# Altium footprint library Synthiam-roundtrip2.PcbLib: 481 footprints (part 18 of 31)
Each footprint in its own frame and in the unit in brackets; x right, y up, seen from the top. Pads: shape width x height; smd on the part's side, far side on the other; paste and mask are expansions set on the pad; w line width, h text height; cw(c..) or ccw(c..) is an arc to the next point about the centre after c.
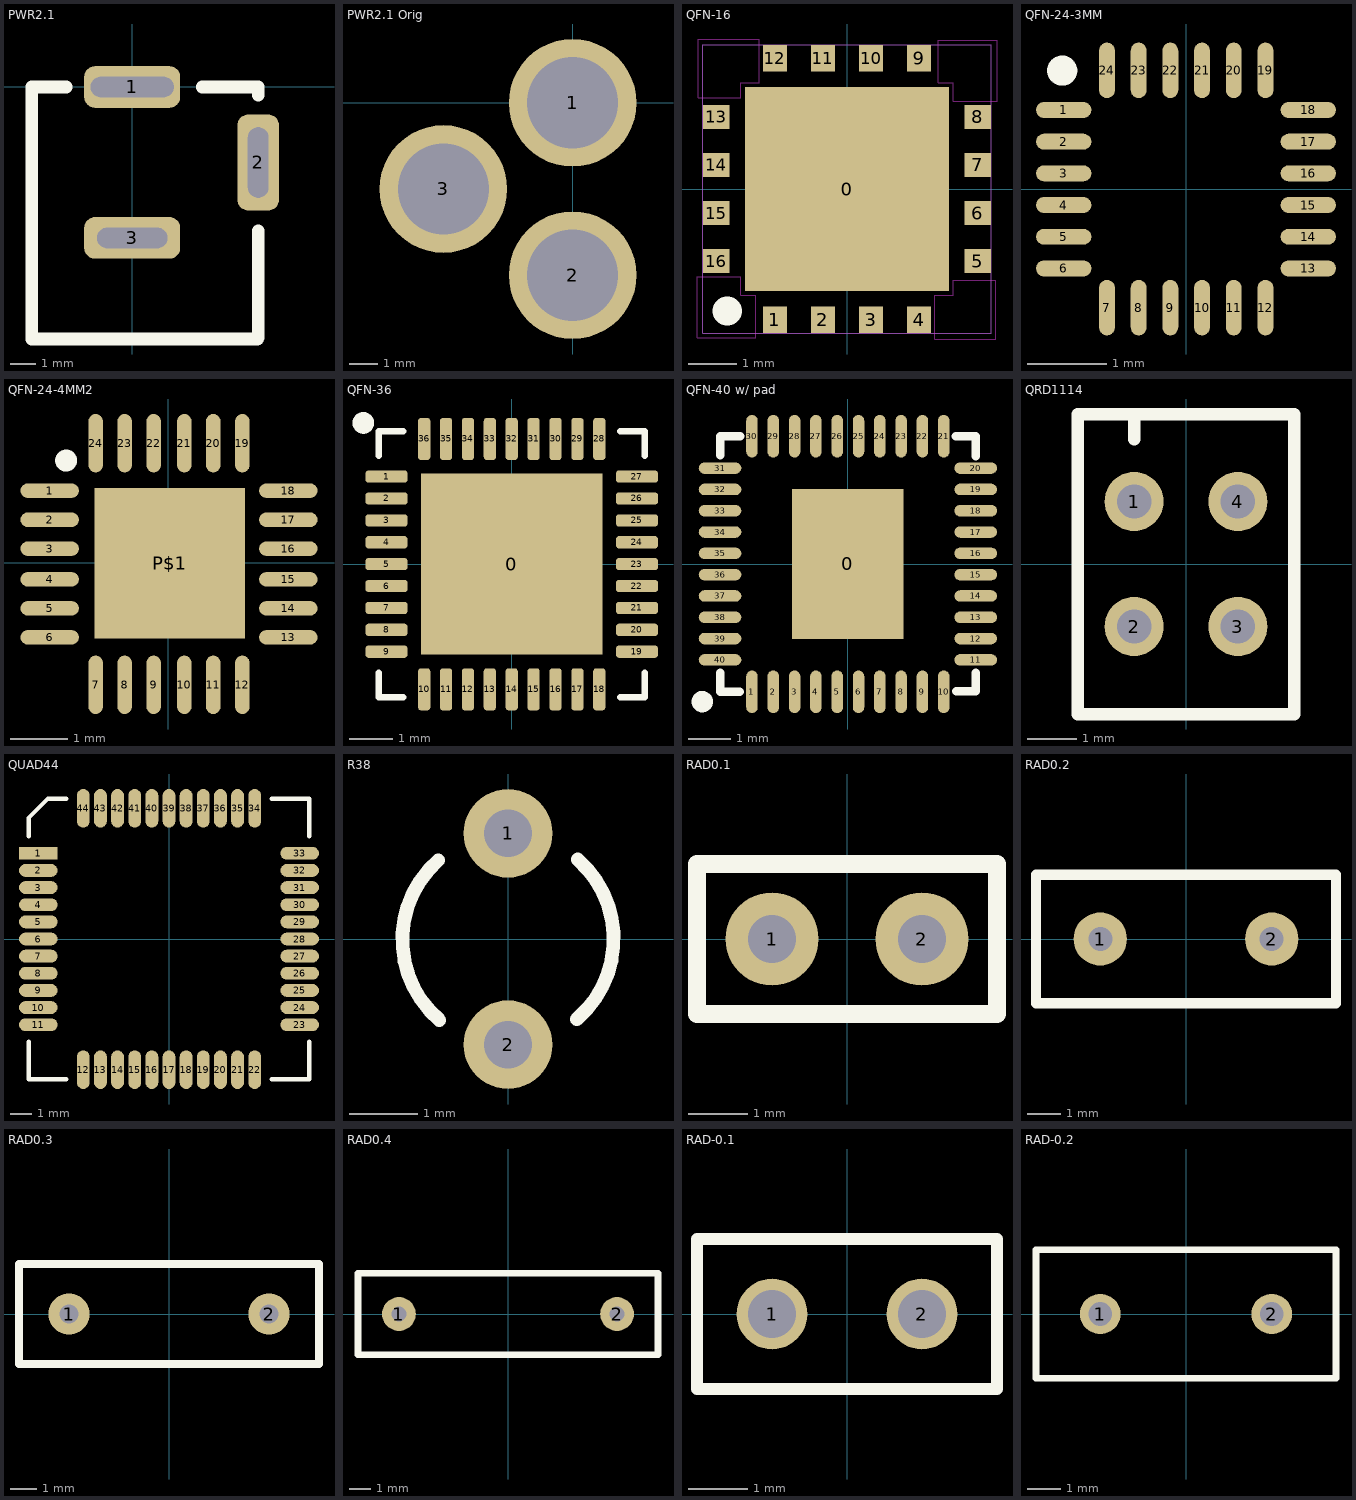
[diagram p17: the footprints below, top view; thin cyan lines are the x and y axes]

## PWR2.1 [mil] "2.1mm slotted footprint"
pads (3):
  rrect50% 150x65 hole 32 slot 130 at 0 deg: 1(0,0)
  rrect50% 65x150 hole 32 slot 110 at 90 deg: 2(197,-118)
  rrect50% 150x65 hole 32 slot 110 at 0 deg: 3(0,-236)
Top Overlay:
  lines w20: -103,0 -157,0 -157,-394 196,-394 ; 109.5,0 197,0 197,-12.5 ; 197,-392 197,-225

## PWR2.1 Orig [mm]
pads (3):
  round 4.445 hole 3.175: 1(0,0) 2(0,-6) 3(-4.5,-3)

## QFN-16 [mm]
pads (17):
  rect 4.25x4.25 smd paste-1.2: 0(0,0)
  rect 0.5x0.55 smd: 1(-1.5,-2.725) 2(-0.5,-2.725) 3(0.5,-2.725) 4(1.5,-2.725) 9(1.5,2.725) 10(0.5,2.725) 11(-0.5,2.725) 12(-1.5,2.725)
  rect 0.55x0.5 smd: 5(2.725,-1.5) 6(2.725,-0.5) 7(2.725,0.5) 8(2.725,1.5) 13(-2.725,1.5) 14(-2.725,0.5) 15(-2.725,-0.5) 16(-2.725,-1.5)
Top Overlay:
  lines w0.6: -2.499,-2.54 -2.489,-2.54
Keep-Out Layer:
  lines w0.025: -3.124,-3.099 -1.905,-3.099 -1.905,-2.21 -2.21,-2.21 -2.21,-1.829 -3.124,-1.829 -3.124,-3.099 ; -3.099,1.905 -2.21,1.905 -2.21,2.21 -1.829,2.21 -1.829,3.124 -3.099,3.124 -3.099,1.905 ; 1.829,-3.124 3.099,-3.124 3.099,-1.905 2.21,-1.905 2.21,-2.21 1.829,-2.21 1.829,-3.124 ; 1.905,2.21 2.21,2.21 2.21,1.829 3.124,1.829 3.124,3.099 1.905,3.099 1.905,2.21
Mechanical 1:
  lines w0.025: -3,-3 3,-3 3,3 -3,3 -3,-3

## QFN-24-3MM [mm]
pads (24):
  rrect100% 0.7x0.2 smd: 1(-1.543,0.997) 2(-1.543,0.597) 3(-1.543,0.197) 4(-1.543,-0.203) 5(-1.543,-0.603) 6(-1.543,-1.002) 13(1.543,-1.002) 14(1.543,-0.603) 15(1.543,-0.203) 16(1.543,0.197) 17(1.543,0.597) 18(1.543,0.997)
  rrect100% 0.2x0.7 smd: 7(-0.997,-1.497) 8(-0.598,-1.497) 9(-0.198,-1.497) 10(0.202,-1.497) 11(0.602,-1.497) 12(1.002,-1.497) 19(1.002,1.497) 20(0.602,1.497) 21(0.202,1.497) 22(-0.198,1.497) 23(-0.598,1.497) 24(-0.997,1.497)
Top Overlay:
  circle w0.254: c-1.562,1.494 r0.063

## QFN-24-4MM2 [mil]
pads (25):
  rrect100% 40x10 smd: 1(-81.35,49.48) 2(-81.35,29.51) 3(-81.35,9.74) 4(-81.35,-11.32) 5(-81.35,-31.18) 6(-81.35,-51.05) 13(82.13,-51.05) 14(82.13,-31.18) 15(82.13,-11.32) 16(82.13,9.74) 17(82.13,29.51) 18(82.13,49.48)
  rrect100% 10x40 smd: 7(-49.87,-83.53) 8(-30,-83.53) 9(-10.14,-83.53) 10(10.93,-83.53) 11(30.69,-83.53) 12(50.66,-83.53) 19(50.66,81.95) 20(30.69,81.95) 21(10.93,81.95) 22(-10.14,81.95) 23(-30,81.95) 24(-49.87,81.95)
  rect 103x103 smd: P$1(0.79,-0.39)
Top Overlay:
  circle w10: c-70.08,70.08 r2.49

## QFN-36 [mil]
pads (37):
  rect 163.39x163.39 smd: 0(0,0)
  rrect50% 38x11.02 smd: 1(-113,79) 2(-113,59.25) 3(-113,39.5) 4(-113,19.75) 5(-113,0) 6(-113,-19.75) 7(-113,-39.5) 8(-113,-59.25) 9(-113,-79) 19(113,-79) 20(113,-59.25) 21(113,-39.5) 22(113,-19.75) 23(113,0) 24(113,19.75) 25(113,39.5) 26(113,59.25) 27(113,79)
  rrect50% 11.02x38 smd: 10(-79,-113) 11(-59.25,-113) 12(-39.5,-113) 13(-19.75,-113) 14(0,-113) 15(19.75,-113) 16(39.5,-113) 17(59.25,-113) 18(79,-113) 28(79,113) 29(59.25,113) 30(39.5,113) 31(19.75,113) 32(0,113) 33(-19.75,113) 34(-39.5,113) 35(-59.25,113) 36(-79,113)
Top Overlay:
  circle w10: c-133.94,127.44 r4.81
  lines w6: -120,-98 -120,-120 -98,-120 ; -120,98 -120,120 -98,120 ; 98,-120 120,-120 120,-98 ; 98,120 120,120 120,98

## QFN-40 w/ pad [mm]
pads (41):
  rect 2.62x3.52 smd paste-1.8 mask+0.051: 0(0,0)
  oval 0.27x1 smd paste-0.125 mask+0.051: 1(-2.25,-3) 2(-1.75,-3) 3(-1.25,-3) 4(-0.75,-3) 5(-0.25,-3) 6(0.25,-3) 7(0.75,-3) 8(1.25,-3) 9(1.75,-3) 10(2.25,-3) 21(2.25,3) 22(1.75,3) 23(1.25,3) 24(0.75,3) 25(0.25,3) 26(-0.25,3) 27(-0.75,3) 28(-1.25,3) 29(-1.75,3) 30(-2.25,3)
  oval 1x0.27 smd paste-0.125 mask+0.051: 11(3,-2.25) 12(3,-1.75) 13(3,-1.25) 14(3,-0.75) 15(3,-0.25) 16(3,0.25) 17(3,0.75) 18(3,1.25) 19(3,1.75) 20(3,2.25) 31(-3,2.25) 32(-3,1.75) 33(-3,1.25) 34(-3,0.75) 35(-3,0.25) 36(-3,-0.25) 37(-3,-0.75) 38(-3,-1.25) 39(-3,-1.75) 40(-3,-2.25)
Top Overlay:
  circle w0.25: c-3.415,-3.23 r0.125
  lines w0.2: -3,-3 -2.54,-3 ; -3,-2.98 -3,-2.55 ; -3,2.55 -3,3 -2.52,3 ; 2.53,3 3,3 ; 2.54,-2.99 3,-2.99 3,-2.55 ; 3,2.53 3,2.99

## QRD1114 [mm]
pads (4):
  round 1.2 hole 0.7: 1(-1.054,1.27) 2(-1.054,-1.27) 3(1.054,-1.27) 4(1.054,1.27)
Top Overlay:
  lines w0.254: -1.054,2.54 -1.054,3.048 ; -2.197,-3.048 2.197,-3.048 2.197,3.048 -2.197,3.048 -2.197,-3.048

## QUAD44 [mm]
pads (44):
  rect 1.8x0.6 smd: 1(-6.1,4)
  oval 1.8x0.6 smd: 2(-6.1,3.2) 3(-6.1,2.4) 4(-6.1,1.6) 5(-6.1,0.8) 6(-6.1,0) 7(-6.1,-0.8) 8(-6.1,-1.6) 9(-6.1,-2.4) 10(-6.1,-3.2) 11(-6.1,-4) 23(6.1,-4) 24(6.1,-3.2) 25(6.1,-2.4) 26(6.1,-1.6) 27(6.1,-0.8) 28(6.1,0) 29(6.1,0.8) 30(6.1,1.6) 31(6.1,2.4) 32(6.1,3.2) 33(6.1,4)
  oval 0.6x1.8 smd: 12(-4,-6.1) 13(-3.2,-6.1) 14(-2.4,-6.1) 15(-1.6,-6.1) 16(-0.8,-6.1) 17(0,-6.1) 18(0.8,-6.1) 19(1.6,-6.1) 20(2.4,-6.1) 21(3.2,-6.1) 22(4,-6.1) 34(4,6.1) 35(3.2,6.1) 36(2.4,6.1) 37(1.6,6.1) 38(0.8,6.1) 39(0,6.1) 40(-0.8,6.1) 41(-1.6,6.1) 42(-2.4,6.1) 43(-3.2,6.1) 44(-4,6.1)
Top Overlay:
  lines w0.2: -6.55,-4.8 -6.55,-6.55 -4.8,-6.55 ; -6.55,4.8 -6.55,5.65 -5.65,6.55 -4.8,6.55 ; 4.8,-6.55 6.55,-6.55 6.55,-4.8 ; 4.8,6.55 6.55,6.55 6.55,4.8

## R38 [mm] "Crystal, Thru-Hole; 2 Leads; Body 3.1 x 8.2 mm (Dia.xH)"
height 8.2
pads (2):
  round 1.3 hole 0.7: 1(0,1.55) 2(0,-1.55)
Top Overlay:
  lines w0.2: -1.022,1.155 ccw(c0,-0.01) -1.006,-1.189 ; 1.006,-1.179 ccw(c0,0) 1.022,1.165

## RAD0.1 [mil]
pads (2):
  round 62 hole 32: 1(-50,0) 2(50,0)
Top Overlay:
  lines w12: -100,-50 100,-50 100,50 -100,50 -100,-50

## RAD0.2 [mil]
pads (2):
  round 62 hole 28: 1(-100,0) 2(100,0)
Top Overlay:
  lines w12: -175,-75 -175,75 175,75 175,-75 -175,-75

## RAD0.3 [mil]
pads (2):
  round 62 hole 28: 1(-150,0) 2(150,0)
Top Overlay:
  lines w12: -225,-75 225,-75 225,75 -225,75 -225,-75

## RAD0.4 [mil]
pads (2):
  round 62 hole 28: 1(-200,0) 2(200,0)
Top Overlay:
  lines w12: -275,-75 275,-75 275,75 -275,75 -275,-75

## RAD-0.1 [mm]
height 9.906
pads (2):
  round 1.2 hole 0.813: 1(-1.27,0) 2(1.27,0)
Top Overlay:
  lines w0.2: -2.54,-1.27 -2.54,1.27 2.54,1.27 2.54,-1.27 -2.54,-1.27

## RAD-0.2 [mm] "Radial Cap, Thru-Hole; 2 Leads; 0.2 in Pin Spacing"
pads (2):
  round 1.2 hole 0.7: 1(-2.54,0) 2(2.54,0)
Top Overlay:
  lines w0.2: -4.445,-1.905 4.445,-1.905 4.445,1.905 -4.445,1.905 -4.445,-1.905